# Altium integrated library MAX4996ETG_.IntLib: 1 symbol
Pins are listed as number, name and electrical type; pins without a type are passive.

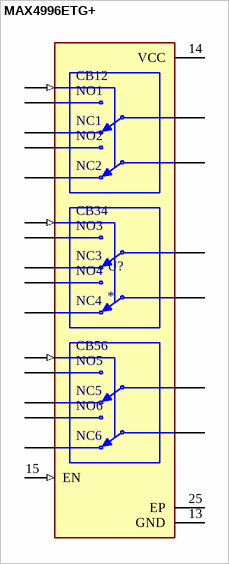
[diagram p0: symbol MAX4996ETG+]

## MAX4996ETG+
designator U?
3 Circuit IC Switch 2:2 4Ohm 24-TQFN (4x4); MF: Maxim Integrated; MP: MAX4996ETG+; SnapEDA_Link: https://www.snapeda.com/parts/MAX4996ETG+/Maxim%20Integrated/view-part/1193961/?ref=snap; Value: *; Purchase-URL: https://pricing.snapeda.com/search/part/MAX4996ETG+/?ref=eda; Price: None; Availability: Warning; Check_prices: https://www.snapeda.com/parts/MAX4996ETG+/Maxim%20Integrated/view-part/1193961/?ref=eda; Package: TQFN-24 Maxim
footprint QFN40P350X350X80-25N
pins: 1 CB12 (in), 2 CB34 (in), 3 CB56 (in), 4 COM4, 5 COM5, 6 COM6, 7 NC6, 8 NC5, 9 NC4, 10 NC3, 11 NC2, 12 NC1, 13 GND (power), 14 VCC (power), 15 EN (in), 16 COM3, 17 COM2, 18 COM1, 19 NO1, 20 NO2, 21 NO3, 22 NO4, 23 NO5, 24 NO6, 25 EP (power)